# Altium schematic symbol library Diodes.SchLib: 2 symbols
Pins are listed as number, name and electrical type; pins without a type are passive.

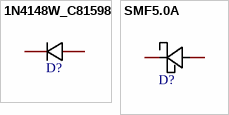
[diagram p0: symbols 1N4148W_C81598 to SMF5.0A]

## 1N4148W_C81598
designator D?, comment 1N4148W  (value not drawn)
二极管配置:独立式;功率:400mW;直流反向耐压(Vr):75V;平均整流电流(Io):150mA;正向压降(Vf):1V@50mA;反向恢复时间(trr):4ns;; Manufacturer: ST(先科); Symbol: 1N4148W_C81598; Add into BOM: yes; Diode Configuration: 独立式; Power Dissipation: 400mW; Reverse Voltage (Vr): 75V; Average Rectified Current (Io): 150mA; Reverse Leakage Current: 1uA@75V; Reverse Recovery Time (trr): 4ns; Name: 1N4148W; Device: 1N4148W_C81598; LCSC Part Name: 75V150mA4ns; Supplier Part: C81598; Manufacturer Part: 1N4148W; Supplier Footprint: SOD-123; JLCPCB Part Class: BasicPart; Datasheet: https://atta.szlcsc.com/upload/public/pdf/source/20161024/1477288446905.pdf; Supplier: LCSC; Convert to PCB: yes; Forward Voltage (Vf@If): 1V@50mA; Operating Temperature: +150℃@(Tj)
footprint SOD-123F_L2.7-W1.6-LS3.8-RD
3D model SOD-123F_L2.7-W1.6-LS3.8-RD
pins: 1 K, 2 A

## SMF5.0A
designator D?, comment TVS:5V  (value not drawn)
Symbol: SMF5.0A; Convert to PCB: yes; 反相截止电压: 5v; 击穿电压: 6.4V; Name: TVS:5V; Device: SMF5.0A; Add into BOM: yes; Supplier Part: C908213
footprint SOD-123
3D model SOD-123FL_L2.8-W1.8-H1.1-LS3.6
pins: 1 C, 2 A